# Altium schematic symbol library TPS54388-Q1.Schlib: 1 symbol
Pins are listed as number, name and electrical type; pins without a type are passive.

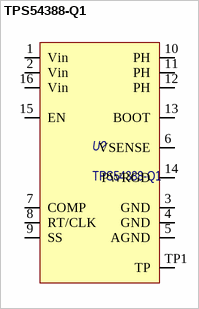
[diagram p0: symbol TPS54388-Q1]

## TPS54388-Q1
designator U?
TPS54388-Q1 Automotive 2.95-V to 6-V, 3-A , 2-MHz Synchronous Buck Converter; Назначение: Понижающий преобразователь напряжения; Потребление, Вт: 0,005; Наименование: TPS54388-Q1; ComponentLink1Description: Datasheet; ComponentLink1URL: http://www.ti.com/lit/ds/symlink/tps54388-q1.pdf
footprint PWQFN-16 (PQFN, 16-Leads, Body 3,00x3,00mm, Pitch 0,50mm, Thermal Pad 1,65x1,65mm, IPC Medium Density)
pins: 1 Vin (power), 2 Vin (power), 3 GND (power), 4 GND (power), 5 AGND (power), 6 VSENSE (power), 7 COMP (power), 8 RT/CLK (power), 9 SS (power), 10 PH (power), 11 PH (power), 12 PH (power), 13 BOOT (power), 14 PWRGD (power), 15 EN (power), 16 Vin (power), TP1 TP (power)